# Altium footprint library fszhang.PcbLib: 279 footprints (part 5 of 18)
Each footprint in its own frame and in the unit in brackets; x right, y up, seen from the top. Pads: shape width x height; smd on the part's side, far side on the other; paste and mask are expansions set on the pad; w line width, h text height; cw(c..) or ccw(c..) is an arc to the next point about the centre after c.
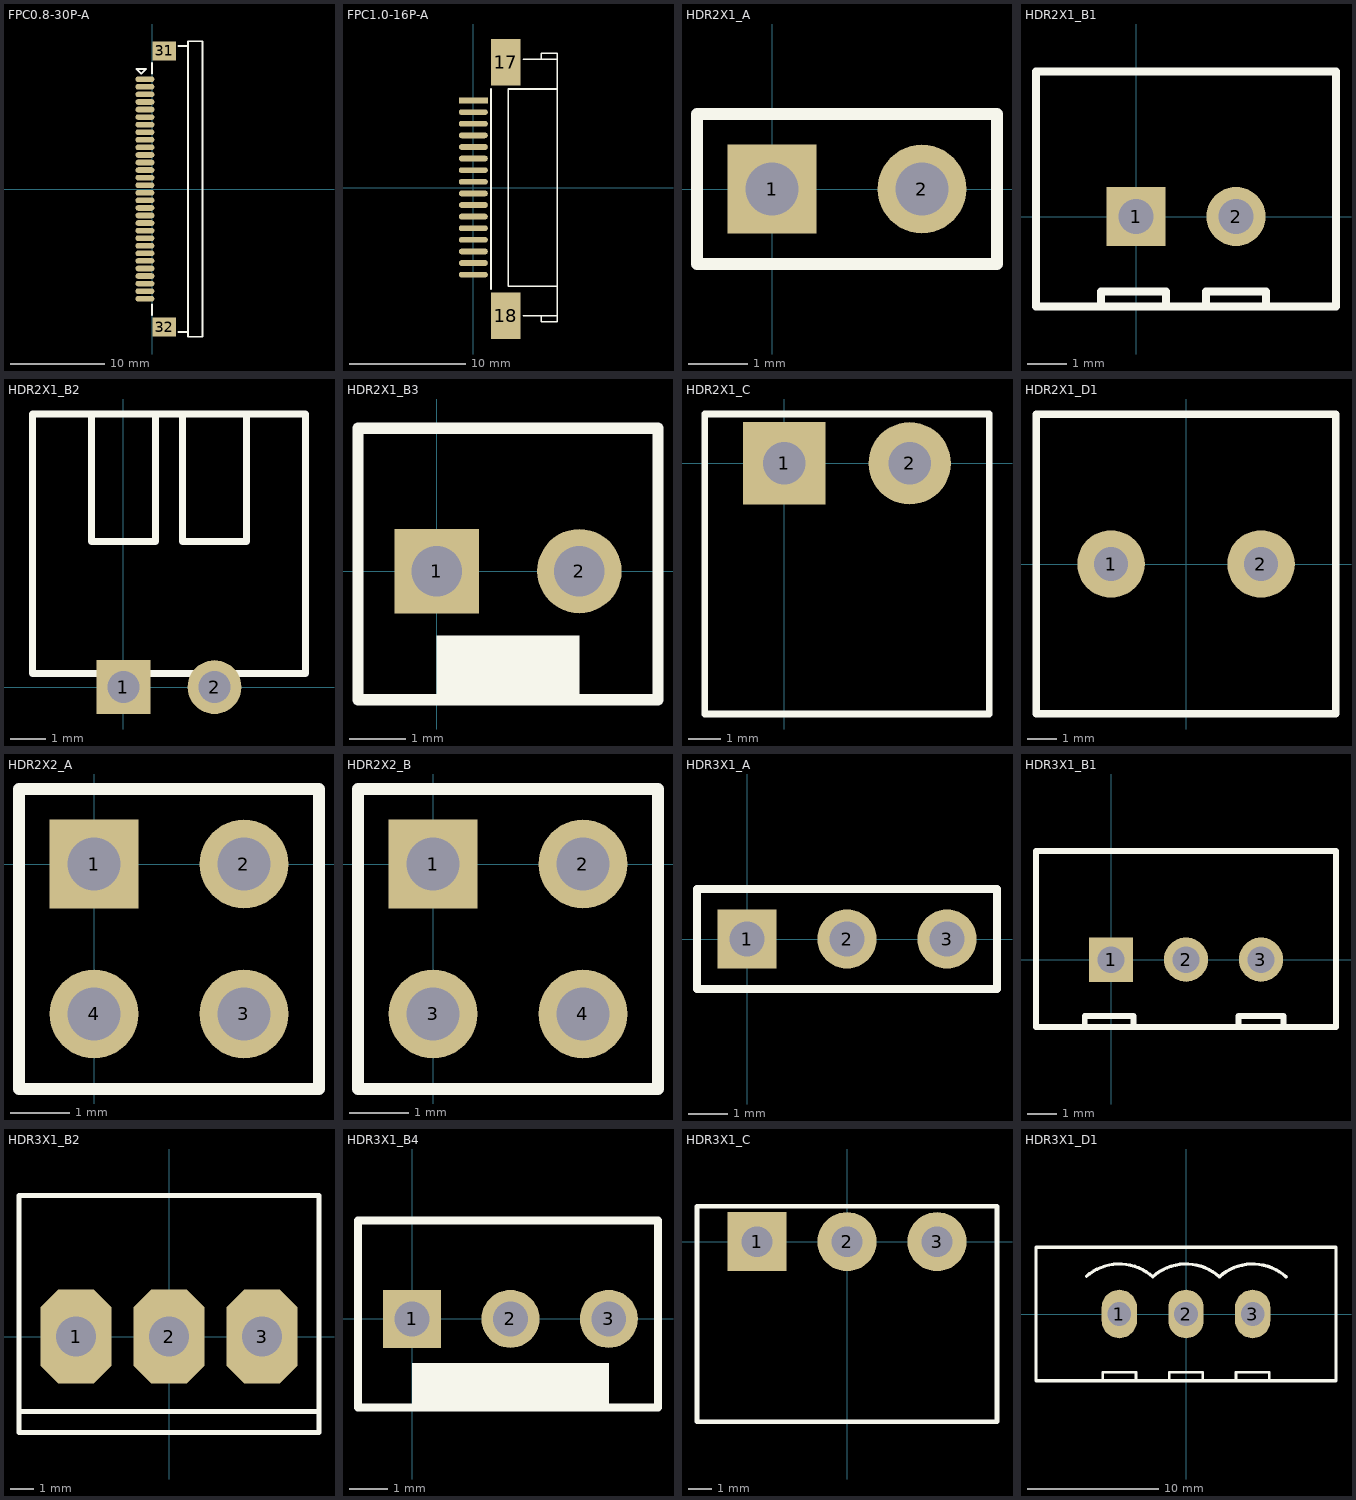
[diagram p4: the footprints below, top view; thin cyan lines are the x and y axes]

## FPC0.8-30P-A [mm] "FPC"
height 1.2
pads (32):
  oval 2x0.6 smd: 1(-0.762,11.6) 2(-0.762,10.8) 3(-0.762,10) 4(-0.762,9.2) 5(-0.762,8.4) 6(-0.762,7.6) 7(-0.762,6.8) 8(-0.762,6) 9(-0.762,5.2) 10(-0.762,4.4) 11(-0.762,3.6) 12(-0.762,2.8) 13(-0.762,2) 14(-0.762,1.2) 15(-0.762,0.4) 16(-0.762,-0.4) 17(-0.762,-1.2) 18(-0.762,-2) 19(-0.762,-2.8) 20(-0.762,-3.6) 21(-0.762,-4.4) 22(-0.762,-5.2) 23(-0.762,-6) 24(-0.762,-6.8) 25(-0.762,-7.6) 26(-0.762,-8.4) 27(-0.762,-9.2) 28(-0.762,-10) 29(-0.762,-10.8) 30(-0.762,-11.6)
  rect 2.5x2 smd: 31(1.27,14.605) 32(1.27,-14.605)
Top Overlay:
  lines w0.2: 0,-13.335 0,-12.192 ; 0,12.192 0,13.335 ; 2.794,-15.113 3.81,-15.113 ; 2.794,15.113 3.81,15.113 ; 3.81,-15.113 3.81,-15.621 5.334,-15.621 5.334,15.621 3.81,15.621 3.81,15.113 ; 3.81,-15.113 3.81,15.113 ; -1.651,12.7 -1.524,12.7 -0.635,12.7 -1.143,12.192 -1.651,12.7

## FPC1.0-16P-A [mm] "FPC"
height 1.2
pads (18):
  rect 2.5x0.5 smd: 1(0,7.493)
  oval 2.5x0.5 smd: 2(0,6.493) 3(0,5.493) 4(0,4.493) 5(0,3.493) 6(0,2.493) 7(0,1.493) 8(0,0.493) 9(0,-0.507) 10(0,-1.507) 11(0,-2.507) 12(0,-3.507) 13(0,-4.507) 14(0,-5.507) 15(0,-6.507) 16(0,-7.507)
  rect 2.5x4 smd: 17(2.794,10.795) 18(2.794,-11.049)
Top Overlay:
  lines w0.15: 1.524,-8.763 1.524,8.509 ; 4.318,-11.049 7.224,-11.049 ; 4.318,11.049 7.224,11.049 ; 5.842,11.049 5.842,11.557 7.224,11.557 7.224,11.049 ; 6.096,-11.049 5.842,-11.049 5.842,-11.557 7.224,-11.557 7.224,-11.049 ; 7.224,-8.507 3,-8.507 3,8.493 7.224,8.493 ; 7.224,-11.049 7.224,11.049

## HDR2X1_A [mm] "Connector; Header; 2 Position"
height 7.01
pads (2):
  rect 1.5x1.5 hole 0.9: 1(0,0)
  round 1.5 hole 0.9: 2(2.54,0)
Top Overlay:
  lines w0.2: -1.27,-1.27 3.81,-1.27 3.81,1.27 -1.27,1.27 -1.27,-1.27

## HDR2X1_B1 [mm] "Connector; Header; 4 Position"
height 1.6
pads (2):
  rect 1.5x1.5 hole 0.9: 1(0,0)
  round 1.5 hole 0.9: 2(2.54,0)
Top Overlay:
  lines w0.2: -0.889,-2.286 -0.889,-1.905 0.762,-1.905 0.762,-2.286 ; 1.778,-2.286 1.778,-1.905 3.302,-1.905 3.302,-2.286 ; -2.54,-2.286 5.08,-2.286 5.08,3.683 -2.54,3.683 -2.54,-2.286
3D body: height 1.5, standoff 0, extent -2.413,-2.159 5.08,3.556

## HDR2X1_B2 [mm] "Connector; Header; 4 Position"
height 1.6
pads (2):
  rect 1.5x1.5 hole 0.9: 1(0,0)
  round 1.5 hole 0.9: 2(2.54,0)
Top Overlay:
  lines w0.2: -0.889,7.62 -0.889,4.064 0.889,4.064 0.889,7.62 ; 1.651,7.62 1.651,4.064 3.429,4.064 3.429,7.62 ; -2.54,0.381 5.08,0.381 5.08,7.62 -2.54,7.62 -2.54,0.381
3D body: height 1.5, standoff 0, extent -2.54,0.381 5.08,7.62

## HDR2X1_B3 [mm] "Connector; Header; 4 Position"
height 1.6
pads (2):
  rect 1.5x1.5 hole 0.9: 1(0,0)
  round 1.5 hole 0.9: 2(2.54,0)
Top Overlay:
  rectangle: 0,-2.286 2.54,-1.143
  lines w0.2: -1.397,-2.286 3.937,-2.286 3.937,2.54 -1.397,2.54 -1.397,-2.286
3D body: height 1.5, standoff 0, extent -1.397,-2.286 3.937,2.54

## HDR2X1_C [mm] "3.81接插件"
height 7
pads (2):
  rect 2.5x2.5 hole 1.3: 1(0,0)
  round 2.5 hole 1.3: 2(3.81,0)
Top Overlay:
  lines w0.2: -2.413,-7.62 -2.413,1.5 6.223,1.5 6.223,-7.62 -2.413,-7.62
3D body: height 5, standoff 0, extent -2.413,-7.62 6.223,1.397

## HDR2X1_D1 [mil] "5.08mm端子"
height 500
pads (2):
  round 90 hole 45: 1(-100,0) 2(100,0)
Top Overlay:
  lines w10: -200,-200 -200,200 200,200 200,-200 -200,-200

## HDR2X2_A [mm] "Connector; Header; 2 Position"
height 7.01
pads (4):
  rect 1.5x1.5 hole 0.9: 1(0,0)
  round 1.5 hole 0.9: 2(2.54,0) 3(2.54,-2.54) 4(0,-2.54)
Top Overlay:
  lines w0.2: -1.27,-3.81 -1.27,1.27 3.81,1.27 3.81,-3.81 -1.27,-3.81

## HDR2X2_B [mm] "Connector; Header; 2 Position"
height 7.01
pads (4):
  rect 1.5x1.5 hole 0.9: 1(0,0)
  round 1.5 hole 0.9: 2(2.54,0) 3(0,-2.54) 4(2.54,-2.54)
Top Overlay:
  lines w0.2: -1.27,-3.81 3.81,-3.81 3.81,1.27 -1.27,1.27 -1.27,-3.81

## HDR3X1_A [mm] "Connector; Header; 3 Position"
height 1.5
pads (3):
  rect 1.5x1.5 hole 0.9: 1(0,0)
  round 1.5 hole 0.9: 2(2.54,0) 3(5.08,0)
Top Overlay:
  lines w0.2: -1.27,-1.27 -1.27,1.27 6.35,1.27 6.35,-1.27 -1.27,-1.27

## HDR3X1_B1 [mm] "Connector; Header; 3 Position"
height 1.5
pads (3):
  rect 1.5x1.5 hole 0.9: 1(0,0)
  round 1.5 hole 0.9: 2(2.54,0) 3(5.08,0)
Top Overlay:
  lines w0.2: -0.889,-2.286 -0.889,-1.905 0.762,-1.905 0.762,-2.286 ; 4.318,-2.286 4.318,-1.905 5.842,-1.905 5.842,-2.286 ; -2.54,-2.286 -2.54,3.683 7.62,3.683 7.62,-2.286 -2.54,-2.286
3D body: height 1.5, standoff 0, extent -2.54,-2.286 7.62,3.683

## HDR3X1_B2 [mm] "Connector; Header; 3 Position"
height 1.5
pads (3):
  oct 3x4 hole 1.7: 1(-3.937,0) 2(0,0) 3(3.937,0)
Top Overlay:
  lines w0.2: -6.35,-3.175 6.35,-3.175 ; -2.54,-4.064 2.54,-4.064 ; -6.35,-4.064 -6.35,5.969 6.35,5.969 6.35,-4.064 -6.35,-4.064

## HDR3X1_B4 [mm] "Connector; Header; 4 Position"
height 1.6
pads (3):
  rect 1.5x1.5 hole 0.9: 1(0,0)
  round 1.5 hole 0.9: 2(2.54,0) 3(5.08,0)
Top Overlay:
  rectangle: 0,-2.286 5.08,-1.143
  lines w0.2: -1.397,-2.286 6.35,-2.286 6.35,2.54 -1.397,2.54 -1.397,-2.286
3D body: height 1.5, standoff 0, extent -1.397,-2.286 6.35,2.54

## HDR3X1_C [mm] "3.81MM接插件"
height 7
pads (3):
  rect 2.5x2.5 hole 1.3: 1(-3.81,0)
  round 2.5 hole 1.3: 2(0,0) 3(3.81,0)
Top Overlay:
  lines w0.2: -6.35,-7.62 -6.35,1.5 6.35,1.5 6.35,-7.62 -6.35,-7.62
3D body: height 6, standoff 0, extent -6.35,-7.62 6.35,1.397

## HDR3X1_D1 [mm] "5.08mm端子"
height 12.7
pads (3):
  oval 2.7x3.7 hole 1.8: 1(-5.08,0) 2(0,0) 3(5.08,0)
Top Overlay:
  lines w0.2: -6.35,-5.08 -6.35,-4.445 -3.81,-4.445 -3.81,-5.08 ; -1.27,-5.08 -1.27,-4.445 1.27,-4.445 1.27,-5.08 ; 3.81,-5.08 3.81,-4.445 6.35,-4.445 6.35,-5.08
  lines w0.254: -7.58,2.875 cw(c-5.08,0) -2.517,2.819 ; -2.538,2.842 cw(c0,0) 2.563,2.819 ; 2.542,2.842 cw(c5.08,0) 7.643,2.819 ; -11.43,-5.08 11.43,-5.08 11.43,5.08 -11.43,5.08 -11.43,-5.08